# Altium schematic symbol library MU00525-32P768K.SchLib: 1 symbol
Pins are listed as number, name and electrical type; pins without a type are passive.

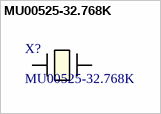
[diagram p0: symbol MU00525-32.768K]

## MU00525-32.768K
designator X?
Description; Manufacturer_Name: NDK; Type: Crystals; Copyright: Copyright (C) 2025 Ultra Librarian. All rights reserved.; Manufacturer_Part_Number: MU00525-32.768K
footprint XTAL_MU00525_NDK
pins: 1, 2